# Altium schematic symbol library Transistor_BJT.SchLib: 390 symbols (part 3 of 3)
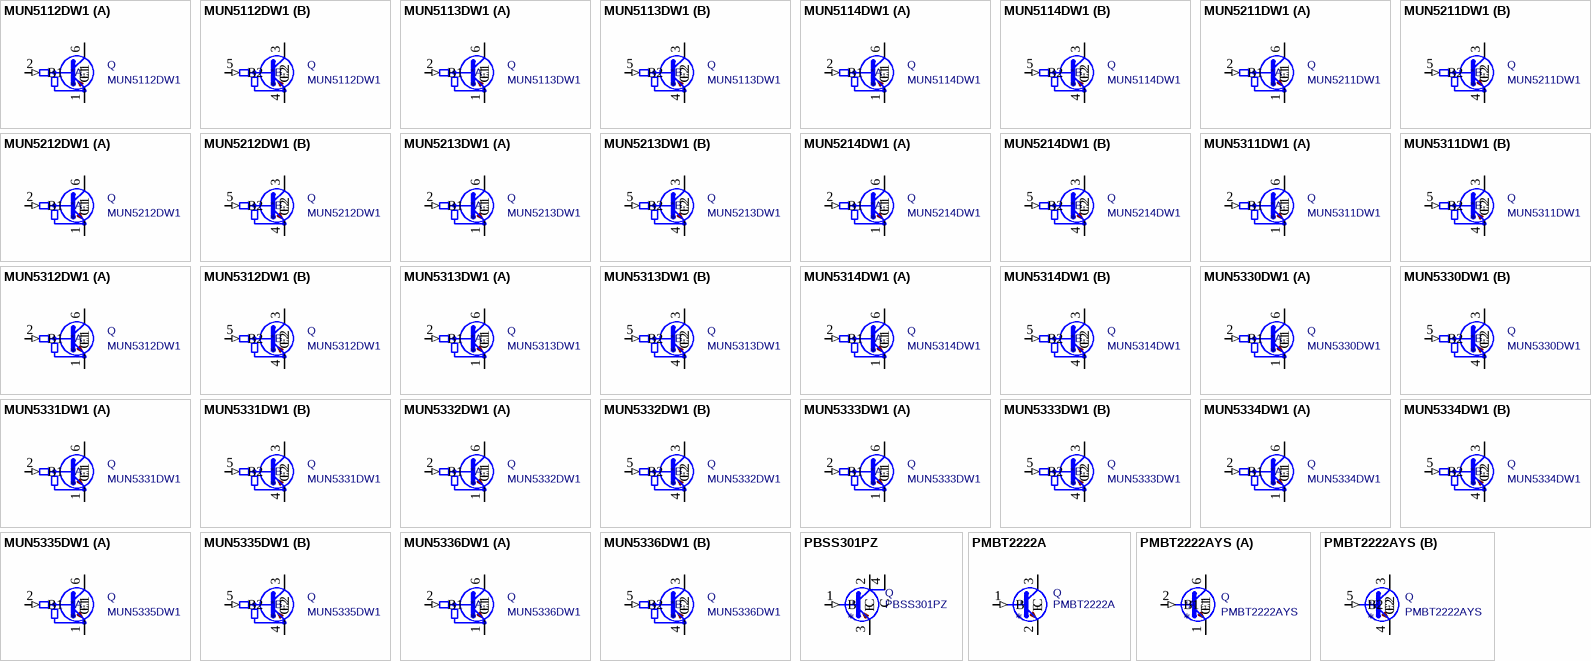
[diagram p13: symbols MUN5112DW1 to PMBT2222AYS]

## MUN5214DW1
designator *  value MUN5214DW1  Reference: Q
Dual NPN Bias Resistor Transistors, Ic 100mA, Vce 50V, Vin(fwd) 40V, R1 = 10kohms, R2 = 47kohms, SOT-363; ki_keywords: BRT Digital Transistor; ki_fp_filters: SOT*363*; Footprint: Package_TO_SOT_SMD:SOT-363_SC-70-6; Datasheet: https://www.onsemi.com/download/data-sheet/pdf/dtc114yd-d.pdf; Description_: Dual NPN Bias Resistor Transistors, Ic 100mA, Vce 50V, Vin(fwd) 40V, R1 = 10kohms, R2 = 47kohms, SOT-363
part A pins: 1 E1, 2 B1 (in), 6 C1
part B pins: 3 C2, 4 E2, 5 B2 (in)

## MUN5311DW1
designator *  value MUN5311DW1  Reference: Q
Complementary Bias Resistor Transistors, Ic 100mA, Vce 50V, Vin(fwd) 40V, R1 = 10kohms, R2 = 10kohms, SOT-363; ki_keywords: BRT Digital Transistor NPN PNP; ki_fp_filters: SOT*363*; Footprint: Package_TO_SOT_SMD:SOT-363_SC-70-6; Datasheet: https://www.onsemi.com/download/data-sheet/pdf/dtc114ep-d.pdf; Description_: Complementary Bias Resistor Transistors, Ic 100mA, Vce 50V, Vin(fwd) 40V, R1 = 10kohms, R2 = 10kohms, SOT-363
part A pins: 1 E1, 2 B1 (in), 6 C1
part B pins: 3 C2, 4 E2, 5 B2 (in)

## MUN5312DW1
designator *  value MUN5312DW1  Reference: Q
Complementary Bias Resistor Transistors, Ic 100mA, Vce 50V, Vin(fwd) 40V, R1 = 22kohms, R2 = 22kohms, SOT-363; ki_keywords: BRT Digital Transistor NPN PNP; ki_fp_filters: SOT*363*; Footprint: Package_TO_SOT_SMD:SOT-363_SC-70-6; Datasheet: https://www.onsemi.com/download/data-sheet/pdf/dtc124ep-d.pdf; Description_: Complementary Bias Resistor Transistors, Ic 100mA, Vce 50V, Vin(fwd) 40V, R1 = 22kohms, R2 = 22kohms, SOT-363
part A pins: 1 E1, 2 B1 (in), 6 C1
part B pins: 3 C2, 4 E2, 5 B2 (in)

## MUN5313DW1
designator *  value MUN5313DW1  Reference: Q
Complementary Bias Resistor Transistors, Ic 100mA, Vce 50V, Vin(fwd) 40V, R1 = 47kohms, R2 = 47kohms, SOT-363; ki_keywords: BRT Digital Transistor NPN PNP; ki_fp_filters: SOT*363*; Footprint: Package_TO_SOT_SMD:SOT-363_SC-70-6; Datasheet: https://www.onsemi.com/download/data-sheet/pdf/dtc144ep-d.pdf; Description_: Complementary Bias Resistor Transistors, Ic 100mA, Vce 50V, Vin(fwd) 40V, R1 = 47kohms, R2 = 47kohms, SOT-363
part A pins: 1 E1, 2 B1 (in), 6 C1
part B pins: 3 C2, 4 E2, 5 B2 (in)

## MUN5314DW1
designator *  value MUN5314DW1  Reference: Q
Complementary Bias Resistor Transistors, Ic 100mA, Vce 50V, Vin(fwd) 40V, R1 = 10kohms, R2 = 47kohms, SOT-363; ki_keywords: BRT Digital Transistor NPN PNP; ki_fp_filters: SOT*363*; Footprint: Package_TO_SOT_SMD:SOT-363_SC-70-6; Datasheet: https://www.onsemi.com/download/data-sheet/pdf/dtc114yp-d.pdf; Description_: Complementary Bias Resistor Transistors, Ic 100mA, Vce 50V, Vin(fwd) 40V, R1 = 10kohms, R2 = 47kohms, SOT-363
part A pins: 1 E1, 2 B1 (in), 6 C1
part B pins: 3 C2, 4 E2, 5 B2 (in)

## MUN5330DW1
designator *  value MUN5330DW1  Reference: Q
Complementary Bias Resistor Transistors, Ic 100mA, Vce 50V, Vin(fwd) 10V, R1 = 1kohms, R2 = 1kohms, SOT-363; ki_keywords: BRT Digital Transistor NPN PNP; ki_fp_filters: SOT*363*; Footprint: Package_TO_SOT_SMD:SOT-363_SC-70-6; Datasheet: https://www.onsemi.com/download/data-sheet/pdf/dtc113ep-d.pdf; Description_: Complementary Bias Resistor Transistors, Ic 100mA, Vce 50V, Vin(fwd) 10V, R1 = 1kohms, R2 = 1kohms, SOT-363
part A pins: 1 E1, 2 B1 (in), 6 C1
part B pins: 3 C2, 4 E2, 5 B2 (in)

## MUN5331DW1
designator *  value MUN5331DW1  Reference: Q
Complementary Bias Resistor Transistors, Ic 100mA, Vce 50V, Vin(fwd) 12V, R1 = 2.2kohms, R2 = 2.2kohms, SOT-363; ki_keywords: BRT Digital Transistor NPN PNP; ki_fp_filters: SOT*363*; Footprint: Package_TO_SOT_SMD:SOT-363_SC-70-6; Datasheet: https://www.onsemi.com/download/data-sheet/pdf/dtc123ep-d.pdf; Description_: Complementary Bias Resistor Transistors, Ic 100mA, Vce 50V, Vin(fwd) 12V, R1 = 2.2kohms, R2 = 2.2kohms, SOT-363
part A pins: 1 E1, 2 B1 (in), 6 C1
part B pins: 3 C2, 4 E2, 5 B2 (in)

## MUN5332DW1
designator *  value MUN5332DW1  Reference: Q
Complementary Bias Resistor Transistors, Ic 100mA, Vce 50V, Vin(fwd) 30V, R1 = 4.7kohms, R2 = 4.7kohms, SOT-363; ki_keywords: BRT Digital Transistor NPN PNP; ki_fp_filters: SOT*363*; Footprint: Package_TO_SOT_SMD:SOT-363_SC-70-6; Datasheet: https://www.onsemi.com/download/data-sheet/pdf/dtc143ep-d.pdf; Description_: Complementary Bias Resistor Transistors, Ic 100mA, Vce 50V, Vin(fwd) 30V, R1 = 4.7kohms, R2 = 4.7kohms, SOT-363
part A pins: 1 E1, 2 B1 (in), 6 C1
part B pins: 3 C2, 4 E2, 5 B2 (in)

## MUN5333DW1
designator *  value MUN5333DW1  Reference: Q
Complementary Bias Resistor Transistors, Ic 100mA, Vce 50V, Vin(fwd) 30V, R1 = 4.7kohms, R2 = 47kohms, SOT-363; ki_keywords: BRT Digital Transistor NPN PNP; ki_fp_filters: SOT*363*; Footprint: Package_TO_SOT_SMD:SOT-363_SC-70-6; Datasheet: https://www.onsemi.com/download/data-sheet/pdf/dtc143zp-d.pdf; Description_: Complementary Bias Resistor Transistors, Ic 100mA, Vce 50V, Vin(fwd) 30V, R1 = 4.7kohms, R2 = 47kohms, SOT-363
part A pins: 1 E1, 2 B1 (in), 6 C1
part B pins: 3 C2, 4 E2, 5 B2 (in)

## MUN5334DW1
designator *  value MUN5334DW1  Reference: Q
Complementary Bias Resistor Transistors, Ic 100mA, Vce 50V, Vin(fwd) 40V, R1 = 22kohms, R2 = 47kohms, SOT-363; ki_keywords: BRT Digital Transistor NPN PNP; ki_fp_filters: SOT*363*; Footprint: Package_TO_SOT_SMD:SOT-363_SC-70-6; Datasheet: https://www.onsemi.com/download/data-sheet/pdf/dtc124xp-d.pdf; Description_: Complementary Bias Resistor Transistors, Ic 100mA, Vce 50V, Vin(fwd) 40V, R1 = 22kohms, R2 = 47kohms, SOT-363
part A pins: 1 E1, 2 B1 (in), 6 C1
part B pins: 3 C2, 4 E2, 5 B2 (in)

## MUN5335DW1
designator *  value MUN5335DW1  Reference: Q
Complementary Bias Resistor Transistors, Ic 100mA, Vce 50V, Vin(fwd) 12V, R1 = 2.2kohms, R2 = 47kohms, SOT-363; ki_keywords: BRT Digital Transistor NPN PNP; ki_fp_filters: SOT*363*; Footprint: Package_TO_SOT_SMD:SOT-363_SC-70-6; Datasheet: https://www.onsemi.com/download/data-sheet/pdf/dtc123jp-d.pdf; Description_: Complementary Bias Resistor Transistors, Ic 100mA, Vce 50V, Vin(fwd) 12V, R1 = 2.2kohms, R2 = 47kohms, SOT-363
part A pins: 1 E1, 2 B1 (in), 6 C1
part B pins: 3 C2, 4 E2, 5 B2 (in)

## MUN5336DW1
designator *  value MUN5336DW1  Reference: Q
Complementary Bias Resistor Transistors, Ic 100mA, Vce 50V, Vin(fwd) 40V, R1 = 100kohms, R2 = 100kohms, SOT-363; ki_keywords: BRT Digital Transistor NPN PNP; ki_fp_filters: SOT*363*; Footprint: Package_TO_SOT_SMD:SOT-363_SC-70-6; Datasheet: https://www.onsemi.com/download/data-sheet/pdf/dtc115ep-d.pdf; Description_: Complementary Bias Resistor Transistors, Ic 100mA, Vce 50V, Vin(fwd) 40V, R1 = 100kohms, R2 = 100kohms, SOT-363
part A pins: 1 E1, 2 B1 (in), 6 C1
part B pins: 3 C2, 4 E2, 5 B2 (in)

## PBSS301PZ
designator *  value PBSS301PZ  Reference: Q
-5.7A Ic, -12V Vce, Small Signal PNP Transistor, SOT-223; ki_fp_filters: SOT?223*; Footprint: Package_TO_SOT_SMD:SOT-223-3_TabPin2; Datasheet: https://assets.nexperia.com/documents/data-sheet/PBSS301PZ.pdf; Description_: -5.7A Ic, -12V Vce, Small Signal PNP Transistor, SOT-223; ki_keywords: PNP Transistor
pins: 1 B (in), 2 C, 3 E, 4 C

## PMBT2222A
designator *  value PMBT2222A  Reference: Q
600mA Ic, 40V Vce, NPN Transistor, SOT-23; ki_fp_filters: SOT?23*; Footprint: Package_TO_SOT_SMD:SOT-23; Datasheet: https://assets.nexperia.com/documents/data-sheet/PMBT2222A.pdf; Description_: 600mA Ic, 40V Vce, NPN Transistor, SOT-23; ki_keywords: NPN Transistor
pins: 1 B (in), 2 E, 3 C

## PMBT2222AYS
designator *  value PMBT2222AYS  Reference: Q
600mA IC, 40V Vce, Dual NPN/NPN Transistors, SOT-363; ki_fp_filters: SOT?363*; Footprint: Package_TO_SOT_SMD:SOT-363_SC-70-6; Datasheet: https://assets.nexperia.com/documents/data-sheet/PMBT2222AYS.pdf; Description_: 600mA IC, 40V Vce, Dual NPN/NPN Transistors, SOT-363; ki_keywords: NPN/NPN Transistor
part A pins: 1 E1, 2 B1 (in), 6 C1
part B pins: 3 C2, 4 E2, 5 B2 (in)

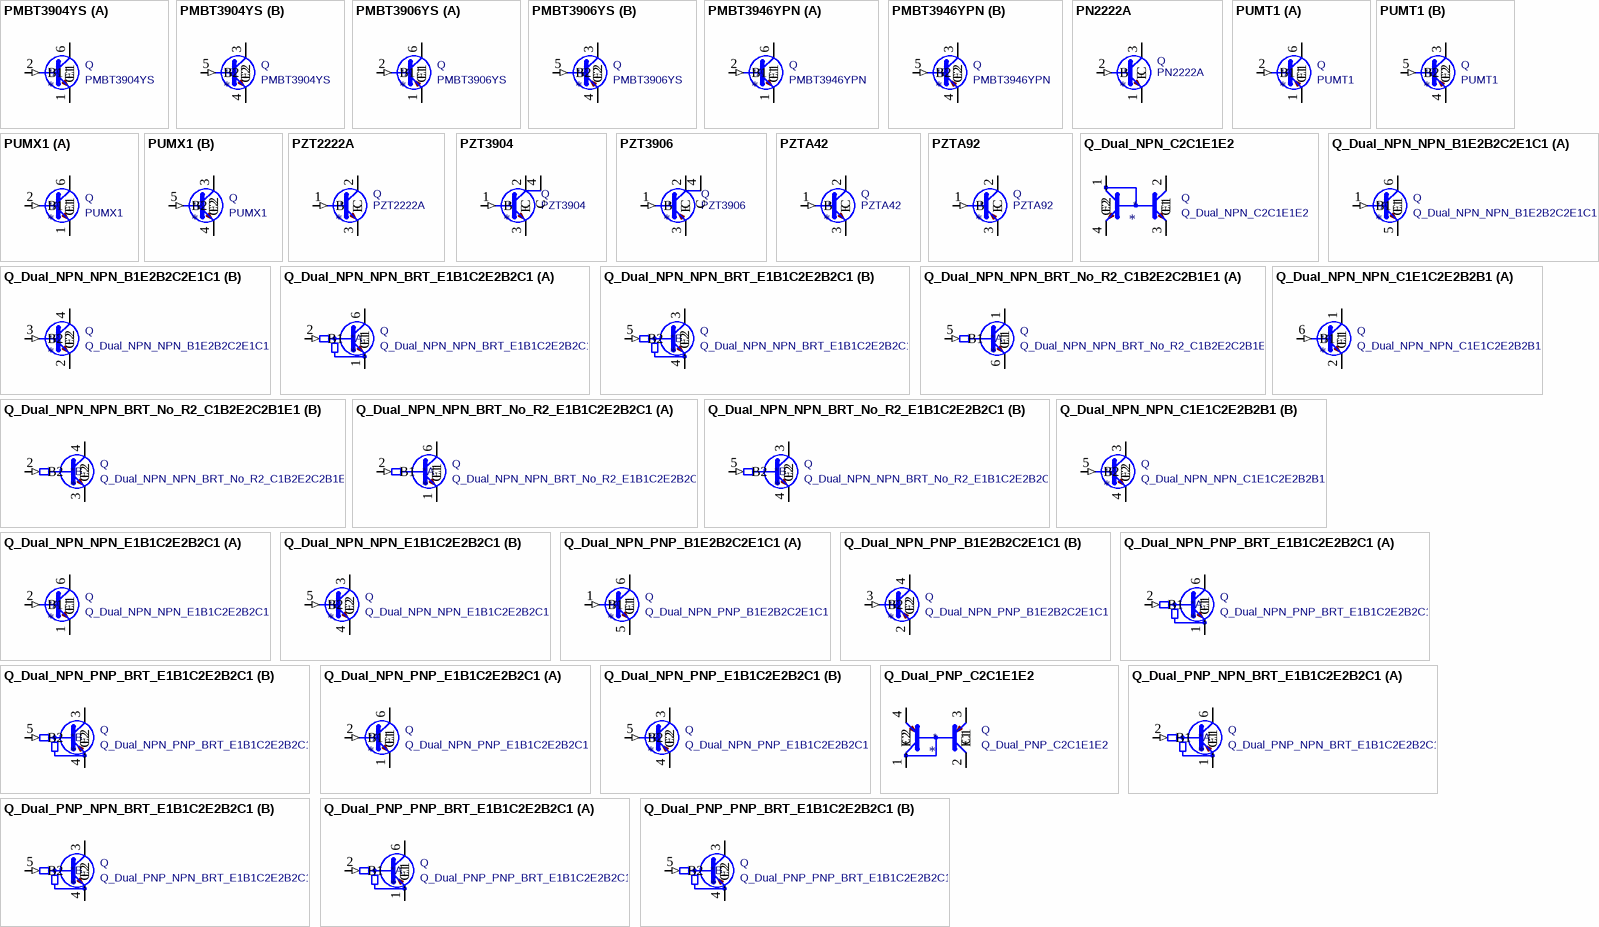
[diagram p9: symbols PMBT3904YS to Q_Dual_PNP_PNP_BRT_E1B1C2E2B2C1]

## PMBT3904YS
designator *  value PMBT3904YS  Reference: Q
200mA IC, 40V Vce, Dual NPN/NPN Transistors, SOT-363; ki_fp_filters: SOT?363*; Footprint: Package_TO_SOT_SMD:SOT-363_SC-70-6; Datasheet: https://assets.nexperia.com/documents/data-sheet/PMBT3904YS.pdf; Description_: 200mA IC, 40V Vce, Dual NPN/NPN Transistors, SOT-363; ki_keywords: NPN/NPN Transistor
part A pins: 1 E1, 2 B1 (in), 6 C1
part B pins: 3 C2, 4 E2, 5 B2 (in)

## PMBT3906YS
designator *  value PMBT3906YS  Reference: Q
200mA IC, 40V Vce, Dual PNP/PNP Transistors, SOT-363; ki_fp_filters: SOT?363*; Footprint: Package_TO_SOT_SMD:SOT-363_SC-70-6; Datasheet: https://assets.nexperia.com/documents/data-sheet/PMBT3906YS.pdf; Description_: 200mA IC, 40V Vce, Dual PNP/PNP Transistors, SOT-363; ki_keywords: PNP/PNP Transistor
part A pins: 1 E1, 2 B1 (in), 6 C1
part B pins: 3 C2, 4 E2, 5 B2 (in)

## PMBT3946YPN
designator *  value PMBT3946YPN  Reference: Q
200mA IC, 40V Vce, Dual NPN/PNP Transistors, SOT-363; ki_fp_filters: SOT?363*; Footprint: Package_TO_SOT_SMD:SOT-363_SC-70-6; Datasheet: https://assets.nexperia.com/documents/data-sheet/PMBT3946YPN.pdf; Description_: 200mA IC, 40V Vce, Dual NPN/PNP Transistors, SOT-363; ki_keywords: NPN/PNP Transistor
part A pins: 1 E1, 2 B1 (in), 6 C1
part B pins: 3 C2, 4 E2, 5 B2 (in)

## PN2222A
designator *  value PN2222A  Reference: Q
1A Ic, 40V Vce, NPN Transistor, General Purpose Transistor, TO-92; ki_fp_filters: TO?92*; Footprint: Package_TO_SOT_THT:TO-92_Inline; Datasheet: https://www.onsemi.com/pub/Collateral/PN2222-D.PDF; Description_: 1A Ic, 40V Vce, NPN Transistor, General Purpose Transistor, TO-92; ki_keywords: NPN Transistor
pins: 1 E, 2 B (in), 3 C

## PUMT1
designator *  value PUMT1  Reference: Q
100mA IC, 40V Vce, Dual PNP/PNP Transistors, SOT-363; ki_fp_filters: SOT?363*; Footprint: Package_TO_SOT_SMD:SOT-363_SC-70-6; Datasheet: https://assets.nexperia.com/documents/data-sheet/PUMT1.pdf; Description_: 100mA IC, 40V Vce, Dual PNP/PNP Transistors, SOT-363; ki_keywords: PNP/PNP Transistor
part A pins: 1 E1, 2 B1 (in), 6 C1
part B pins: 3 C2, 4 E2, 5 B2 (in)

## PUMX1
designator *  value PUMX1  Reference: Q
100mA IC, 40V Vce, Dual NPN/NPN Transistors, SOT-363; ki_fp_filters: SOT?363*; Footprint: Package_TO_SOT_SMD:SOT-363_SC-70-6; Datasheet: https://assets.nexperia.com/documents/data-sheet/PUMX1.pdf; Description_: 100mA IC, 40V Vce, Dual NPN/NPN Transistors, SOT-363; ki_keywords: NPN/NPN Transistor
part A pins: 1 E1, 2 B1 (in), 6 C1
part B pins: 3 C2, 4 E2, 5 B2 (in)

## PZT2222A
designator *  value PZT2222A  Reference: Q
1A Ic, 40V Vce, NPN Transistor, General Purpose Transistor, SOT-223; ki_keywords: NPN General Puprose Transistor SMD; ki_fp_filters: SOT?223*; Footprint: Package_TO_SOT_SMD:SOT-223-3_TabPin2; Datasheet: https://www.onsemi.com/pub/Collateral/PN2222-D.PDF; Description_: 1A Ic, 40V Vce, NPN Transistor, General Purpose Transistor, SOT-223
pins: 1 B (in), 2 C, 3 E

## PZT3904
designator *  value PZT3904  Reference: Q
0.2A Ic, 40V Vce, Small Signal NPN Transistor, SOT-223; ki_fp_filters: SOT?223*; Footprint: Package_TO_SOT_SMD:SOT-223-3_TabPin2; Datasheet: https://www.onsemi.com/pdf/datasheet/pzt3904-d.pdf; Description_: 0.2A Ic, 40V Vce, Small Signal NPN Transistor, SOT-223; ki_keywords: NPN Transistor
pins: 1 B (in), 2 C, 3 E, 4 C

## PZT3906
designator *  value PZT3906  Reference: Q
-0.2A Ic, -40V Vce, Small Signal PNP Transistor, SOT-223; ki_fp_filters: SOT?223*; Footprint: Package_TO_SOT_SMD:SOT-223-3_TabPin2; Datasheet: https://www.onsemi.com/pdf/datasheet/pzt3906-d.pdf; Description_: -0.2A Ic, -40V Vce, Small Signal PNP Transistor, SOT-223; ki_keywords: PNP Transistor
pins: 1 B (in), 2 C, 3 E, 4 C

## PZTA42
designator *  value PZTA42  Reference: Q
0.5A Ic, 300V Vce, NPN High Voltage Transistor, SOT-223; ki_keywords: NPN High Voltage Transistor SMD; ki_fp_filters: SOT?223*; Footprint: Package_TO_SOT_SMD:SOT-223-3_TabPin2; Datasheet: https://www.onsemi.com/pub/Collateral/PZTA42T1-D.PDF; Description_: 0.5A Ic, 300V Vce, NPN High Voltage Transistor, SOT-223
pins: 1 B (in), 2 C, 3 E

## PZTA92
designator *  value PZTA92  Reference: Q
0.5A Ic, 300V Vce, PNP High Voltage Transistor, SOT-223; ki_fp_filters: SOT?223*; Footprint: Package_TO_SOT_SMD:SOT-223-3_TabPin2; Datasheet: https://www.onsemi.com/pub/Collateral/PZTA92T1-D.PDF; Description_: 0.5A Ic, 300V Vce, PNP High Voltage Transistor, SOT-223; ki_keywords: PNP High Voltage Transistor
pins: 1 B (in), 2 C, 3 E

## Q_Dual_NPN_C2C1E1E2
designator *  value Q_Dual_NPN_C2C1E1E2  Reference: Q
Double NPN transistors, current mirror configuration; ki_keywords: BJT; Datasheet: ~; Description_: Double NPN transistors, current mirror configuration
pins: 1 C2, 2 C1, 3 E1, 4 E2

## Q_Dual_NPN_NPN_B1E2B2C2E1C1
designator *  value Q_Dual_NPN_NPN_B1E2B2C2E1C1  Reference: Q
Dual NPN transistor, 6 pin package; ki_keywords: BJT; Datasheet: ~; Description_: Dual NPN transistor, 6 pin package
part A pins: 1 B1 (in), 5 E1, 6 C1
part B pins: 2 E2, 3 B2 (in), 4 C2

## Q_Dual_NPN_NPN_BRT_E1B1C2E2B2C1
designator *  value Q_Dual_NPN_NPN_BRT_E1B1C2E2B2C1  Reference: Q
Dual NPN bias resistor transistor, 6 pin package; ki_keywords: BJT; Datasheet: ~; Description_: Dual NPN bias resistor transistor, 6 pin package
part A pins: 1 E1, 2 B1 (in), 6 C1
part B pins: 3 C2, 4 E2, 5 B2 (in)

## Q_Dual_NPN_NPN_BRT_No_R2_C1B2E2C2B1E1
designator *  value Q_Dual_NPN_NPN_BRT_No_R2_C1B2E2C2B1E1  Reference: Q
Dual NPN bias resistor transistor without a base-emitter resistor, 6 pin package; ki_keywords: BJT; Datasheet: ~; Description_: Dual NPN bias resistor transistor without a base-emitter resistor, 6 pin package
part A pins: 1 C1, 5 B1 (in), 6 E1
part B pins: 2 B2 (in), 3 E2, 4 C2

## Q_Dual_NPN_NPN_BRT_No_R2_E1B1C2E2B2C1
designator *  value Q_Dual_NPN_NPN_BRT_No_R2_E1B1C2E2B2C1  Reference: Q
Dual NPN bias resistor transistor without a base-emitter resistor, 6 pin package; ki_keywords: BJT; Datasheet: ~; Description_: Dual NPN bias resistor transistor without a base-emitter resistor, 6 pin package
part A pins: 1 E1, 2 B1 (in), 6 C1
part B pins: 3 C2, 4 E2, 5 B2 (in)

## Q_Dual_NPN_NPN_C1E1C2E2B2B1
designator *  value Q_Dual_NPN_NPN_C1E1C2E2B2B1  Reference: Q
Dual NPN transistor, 6 pin package; ki_keywords: BJT; Datasheet: ~; Description_: Dual NPN transistor, 6 pin package
part A pins: 1 C1, 2 E1, 6 B1 (in)
part B pins: 3 C2, 4 E2, 5 B2 (in)

## Q_Dual_NPN_NPN_E1B1C2E2B2C1
designator *  value Q_Dual_NPN_NPN_E1B1C2E2B2C1  Reference: Q
Dual NPN transistor, 6 pin package; ki_keywords: BJT; Datasheet: ~; Description_: Dual NPN transistor, 6 pin package
part A pins: 1 E1, 2 B1 (in), 6 C1
part B pins: 3 C2, 4 E2, 5 B2 (in)

## Q_Dual_NPN_PNP_B1E2B2C2E1C1
designator *  value Q_Dual_NPN_PNP_B1E2B2C2E1C1  Reference: Q
Dual NPN/PNP transistor, 6 pin package; ki_keywords: BJT; Datasheet: ~; Description_: Dual NPN/PNP transistor, 6 pin package
part A pins: 1 B1 (in), 5 E1, 6 C1
part B pins: 2 E2, 3 B2 (in), 4 C2

## Q_Dual_NPN_PNP_BRT_E1B1C2E2B2C1
designator *  value Q_Dual_NPN_PNP_BRT_E1B1C2E2B2C1  Reference: Q
Dual NPN/PNP bias resistor transistor, 6 pin package; ki_keywords: BJT; Datasheet: ~; Description_: Dual NPN/PNP bias resistor transistor, 6 pin package
part A pins: 1 E1, 2 B1 (in), 6 C1
part B pins: 3 C2, 4 E2, 5 B2 (in)

## Q_Dual_NPN_PNP_E1B1C2E2B2C1
designator *  value Q_Dual_NPN_PNP_E1B1C2E2B2C1  Reference: Q
Dual NPN/PNP transistor, 6 pin package; ki_keywords: BJT; Datasheet: ~; Description_: Dual NPN/PNP transistor, 6 pin package
part A pins: 1 E1, 2 B1 (in), 6 C1
part B pins: 3 C2, 4 E2, 5 B2 (in)

## Q_Dual_PNP_C2C1E1E2
designator *  value Q_Dual_PNP_C2C1E1E2  Reference: Q
Double PNP transistors, current mirror configuration; ki_keywords: BJT; Datasheet: ~; Description_: Double PNP transistors, current mirror configuration
pins: 1 C2, 2 C1, 3 E1, 4 E2

## Q_Dual_PNP_NPN_BRT_E1B1C2E2B2C1
designator *  value Q_Dual_PNP_NPN_BRT_E1B1C2E2B2C1  Reference: Q
Dual PNP/NPN bias resistor transistor, 6 pin package; ki_keywords: BJT; Datasheet: ~; Description_: Dual PNP/NPN bias resistor transistor, 6 pin package
part A pins: 1 E1, 2 B1 (in), 6 C1
part B pins: 3 C2, 4 E2, 5 B2 (in)

## Q_Dual_PNP_PNP_BRT_E1B1C2E2B2C1
designator *  value Q_Dual_PNP_PNP_BRT_E1B1C2E2B2C1  Reference: Q
Dual PNP bias resistor transistor, 6 pin package; ki_keywords: BJT; Datasheet: ~; Description_: Dual PNP bias resistor transistor, 6 pin package
part A pins: 1 E1, 2 B1 (in), 6 C1
part B pins: 3 C2, 4 E2, 5 B2 (in)

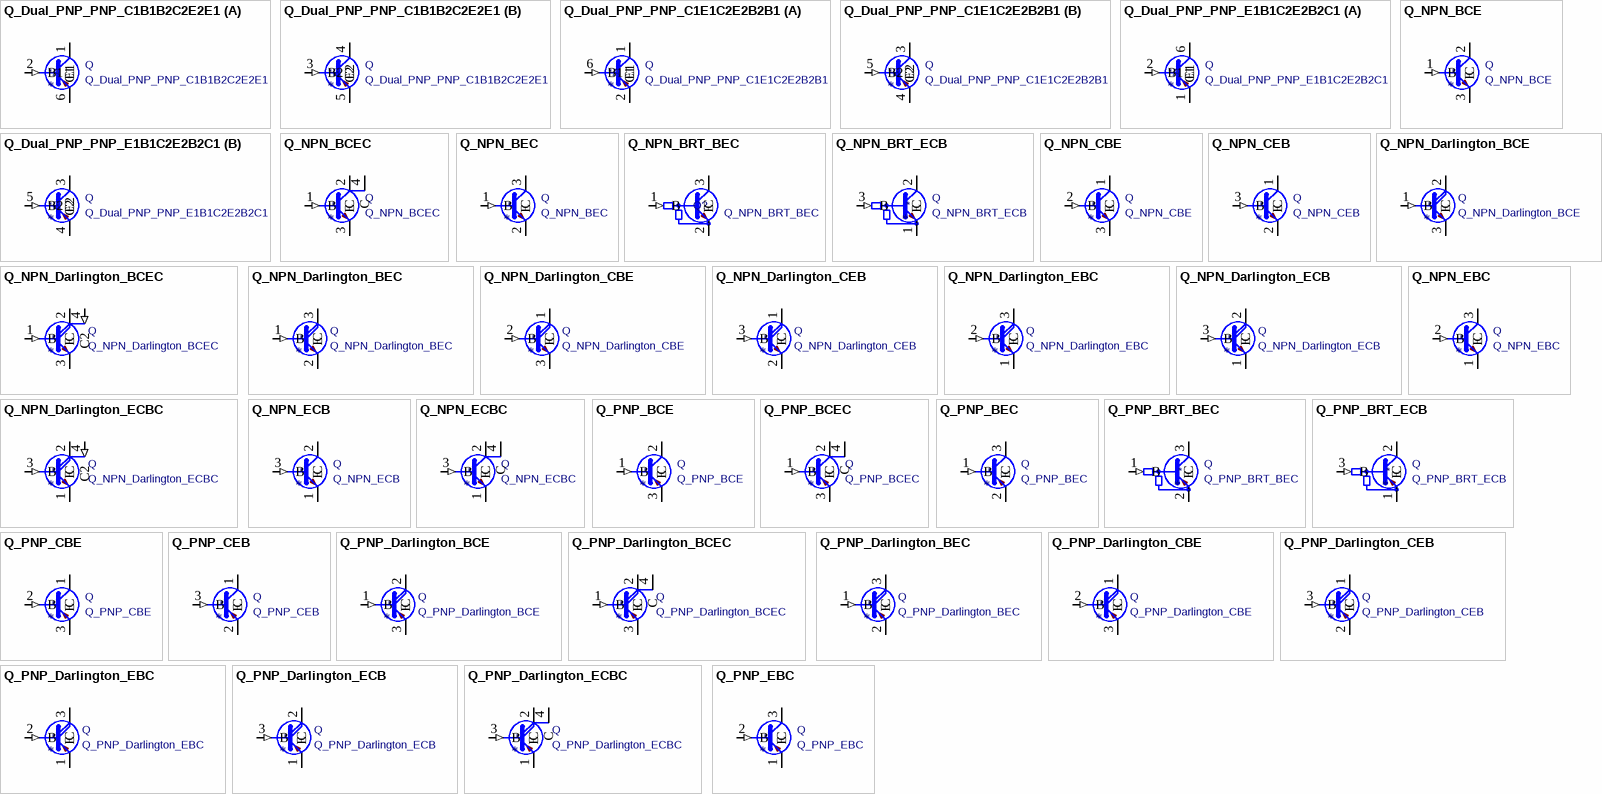
[diagram p10: symbols Q_Dual_PNP_PNP_C1B1B2C2E2E1 to Q_PNP_EBC]

## Q_Dual_PNP_PNP_C1B1B2C2E2E1
designator *  value Q_Dual_PNP_PNP_C1B1B2C2E2E1  Reference: Q
Dual PNP transistor, 6 pin package; ki_keywords: BJT; Datasheet: ~; Description_: Dual PNP transistor, 6 pin package
part A pins: 1 C1, 2 B1 (in), 6 E1
part B pins: 3 B2 (in), 4 C2, 5 E2

## Q_Dual_PNP_PNP_C1E1C2E2B2B1
designator *  value Q_Dual_PNP_PNP_C1E1C2E2B2B1  Reference: Q
Dual PNP transistor, 6 pin package; ki_keywords: BJT; Datasheet: ~; Description_: Dual PNP transistor, 6 pin package
part A pins: 1 C1, 2 E1, 6 B1 (in)
part B pins: 3 C2, 4 E2, 5 B2 (in)

## Q_Dual_PNP_PNP_E1B1C2E2B2C1
designator *  value Q_Dual_PNP_PNP_E1B1C2E2B2C1  Reference: Q
Dual PNP transistor, 6 pin package; ki_keywords: BJT; Datasheet: ~; Description_: Dual PNP transistor, 6 pin package
part A pins: 1 E1, 2 B1 (in), 6 C1
part B pins: 3 C2, 4 E2, 5 B2 (in)

## Q_NPN_BCE
designator *  value Q_NPN_BCE  Reference: Q
NPN transistor, base/collector/emitter; ki_keywords: BJT; Datasheet: ~; Description_: NPN transistor, base/collector/emitter
pins: 1 B (in), 2 C, 3 E

## Q_NPN_BCEC
designator *  value Q_NPN_BCEC  Reference: Q
NPN transistor, base/collector/emitter, collector connected to mounting plane; ki_keywords: BJT; Datasheet: ~; Description_: NPN transistor, base/collector/emitter, collector connected to mounting plane
pins: 1 B (in), 2 C, 3 E, 4 C

## Q_NPN_BEC
designator *  value Q_NPN_BEC  Reference: Q
NPN transistor, base/emitter/collector; ki_keywords: BJT; Datasheet: ~; Description_: NPN transistor, base/emitter/collector
pins: 1 B (in), 2 E, 3 C

## Q_NPN_BRT_BEC
designator Q?  value Q_NPN_BRT_BEC  (hidden comment: *)
NPN bias resistor transistor, base/emitter/collector; ki_keywords: BJT; Reference: Q; Datasheet: ~; Description_: NPN bias resistor transistor, base/emitter/collector
footprint SOT-23-3
pins: 1 B (in), 2 E, 3 C

## Q_NPN_BRT_ECB
designator *  value Q_NPN_BRT_ECB  Reference: Q
NPN transistor, emitter/collector/base; ki_keywords: BJT; Datasheet: ~; Description_: NPN transistor, emitter/collector/base
pins: 1 E, 2 C, 3 B (in)

## Q_NPN_CBE
designator *  value Q_NPN_CBE  Reference: Q
NPN transistor, collector/base/emitter; ki_keywords: BJT; Datasheet: ~; Description_: NPN transistor, collector/base/emitter
pins: 1 C, 2 B (in), 3 E

## Q_NPN_CEB
designator *  value Q_NPN_CEB  Reference: Q
NPN transistor, collector/emitter/base; ki_keywords: BJT; Datasheet: ~; Description_: NPN transistor, collector/emitter/base
pins: 1 C, 2 E, 3 B (in)

## Q_NPN_Darlington_BCE
designator *  value Q_NPN_Darlington_BCE  Reference: Q
NPN Darlington transistor, base/collector/emitter; ki_keywords: BJT; Datasheet: ~; Description_: NPN Darlington transistor, base/collector/emitter
pins: 1 B (in), 2 C, 3 E

## Q_NPN_Darlington_BCEC
designator *  value Q_NPN_Darlington_BCEC  Reference: Q
NPN Darlington transistor, base/collector/emitter, collector connected to mounting plane; ki_keywords: BJT; Datasheet: ~; Description_: NPN Darlington transistor, base/collector/emitter, collector connected to mounting plane
pins: 1 B (in), 2 C, 3 E, 4 C2 (in)

## Q_NPN_Darlington_BEC
designator *  value Q_NPN_Darlington_BEC  Reference: Q
NPN Darlington transistor, base/emitter/collector; ki_keywords: BJT; Datasheet: ~; Description_: NPN Darlington transistor, base/emitter/collector
pins: 1 B (in), 2 E, 3 C

## Q_NPN_Darlington_CBE
designator *  value Q_NPN_Darlington_CBE  Reference: Q
NPN Darlington transistor, collector/base/emitter; ki_keywords: BJT; Datasheet: ~; Description_: NPN Darlington transistor, collector/base/emitter
pins: 1 C, 2 B (in), 3 E

## Q_NPN_Darlington_CEB
designator *  value Q_NPN_Darlington_CEB  Reference: Q
NPN Darlington transistor, collector/emitter/base; ki_keywords: BJT; Datasheet: ~; Description_: NPN Darlington transistor, collector/emitter/base
pins: 1 C, 2 E, 3 B (in)

## Q_NPN_Darlington_EBC
designator *  value Q_NPN_Darlington_EBC  Reference: Q
NPN Darlington transistor, emitter/base/collector; ki_keywords: BJT; Datasheet: ~; Description_: NPN Darlington transistor, emitter/base/collector
pins: 1 E, 2 B (in), 3 C

## Q_NPN_Darlington_ECB
designator *  value Q_NPN_Darlington_ECB  Reference: Q
NPN Darlington transistor, emitter/collector/base; ki_keywords: BJT; Datasheet: ~; Description_: NPN Darlington transistor, emitter/collector/base
pins: 1 E, 2 C, 3 B (in)

## Q_NPN_Darlington_ECBC
designator *  value Q_NPN_Darlington_ECBC  Reference: Q
NPN Darlington transistor, emitter/collector/base, collector connected to mounting plane; ki_keywords: BJT; Datasheet: ~; Description_: NPN Darlington transistor, emitter/collector/base, collector connected to mounting plane
pins: 1 E, 2 C, 3 B (in), 4 C2 (in)

## Q_NPN_EBC
designator *  value Q_NPN_EBC  Reference: Q
NPN transistor, emitter/base/collector; ki_keywords: BJT; Datasheet: ~; Description_: NPN transistor, emitter/base/collector
pins: 1 E, 2 B (in), 3 C

## Q_NPN_ECB
designator *  value Q_NPN_ECB  Reference: Q
NPN transistor, emitter/collector/base; ki_keywords: BJT; Datasheet: ~; Description_: NPN transistor, emitter/collector/base
pins: 1 E, 2 C, 3 B (in)

## Q_NPN_ECBC
designator *  value Q_NPN_ECBC  Reference: Q
NPN transistor, emitter/collector/base, collector connected to mounting plane; ki_keywords: BJT; Datasheet: ~; Description_: NPN transistor, emitter/collector/base, collector connected to mounting plane
pins: 1 E, 2 C, 3 B (in), 4 C

## Q_PNP_BCE
designator *  value Q_PNP_BCE  Reference: Q
PNP transistor, base/collector/emitter; ki_keywords: BJT; Datasheet: ~; Description_: PNP transistor, base/collector/emitter
pins: 1 B (in), 2 C, 3 E

## Q_PNP_BCEC
designator *  value Q_PNP_BCEC  Reference: Q
PNP transistor, base/collector/emitter, collector connected to mounting plane; ki_keywords: BJT; Datasheet: ~; Description_: PNP transistor, base/collector/emitter, collector connected to mounting plane
pins: 1 B (in), 2 C, 3 E, 4 C

## Q_PNP_BEC
designator *  value Q_PNP_BEC  Reference: Q
PNP transistor, base/emitter/collector; ki_keywords: BJT; Datasheet: ~; Description_: PNP transistor, base/emitter/collector
pins: 1 B (in), 2 E, 3 C

## Q_PNP_BRT_BEC
designator *  value Q_PNP_BRT_BEC  Reference: Q
PNP bias resistor transistor, base/emitter/collector; ki_keywords: BJT; Datasheet: ~; Description_: PNP bias resistor transistor, base/emitter/collector
pins: 1 B (in), 2 E, 3 C

## Q_PNP_BRT_ECB
designator *  value Q_PNP_BRT_ECB  Reference: Q
PNP bias resistor transistor, emitter/collector/base; ki_keywords: BJT; Datasheet: ~; Description_: PNP bias resistor transistor, emitter/collector/base
pins: 1 E, 2 C, 3 B (in)

## Q_PNP_CBE
designator *  value Q_PNP_CBE  Reference: Q
PNP transistor, collector/base/emitter; ki_keywords: BJT; Datasheet: ~; Description_: PNP transistor, collector/base/emitter
pins: 1 C, 2 B (in), 3 E

## Q_PNP_CEB
designator *  value Q_PNP_CEB  Reference: Q
PNP transistor, collector/emitter/base; ki_keywords: BJT; Datasheet: ~; Description_: PNP transistor, collector/emitter/base
pins: 1 C, 2 E, 3 B (in)

## Q_PNP_Darlington_BCE
designator *  value Q_PNP_Darlington_BCE  Reference: Q
PNP Darlington transistor, base/collector/emitter; ki_keywords: BJT; Datasheet: ~; Description_: PNP Darlington transistor, base/collector/emitter
pins: 1 B (in), 2 C, 3 E

## Q_PNP_Darlington_BCEC
designator *  value Q_PNP_Darlington_BCEC  Reference: Q
PNP Darlington transistor, base/collector/emitter, collector connected to mounting plane; ki_keywords: BJT; Datasheet: ~; Description_: PNP Darlington transistor, base/collector/emitter, collector connected to mounting plane
pins: 1 B (in), 2 C, 3 E, 4 C

## Q_PNP_Darlington_BEC
designator *  value Q_PNP_Darlington_BEC  Reference: Q
PNP Darlington transistor, base/emitter/collector; ki_keywords: BJT; Datasheet: ~; Description_: PNP Darlington transistor, base/emitter/collector
pins: 1 B (in), 2 E, 3 C

## Q_PNP_Darlington_CBE
designator *  value Q_PNP_Darlington_CBE  Reference: Q
PNP Darlington transistor, collector/base/emitter; ki_keywords: BJT; Datasheet: ~; Description_: PNP Darlington transistor, collector/base/emitter
pins: 1 C, 2 B (in), 3 E

## Q_PNP_Darlington_CEB
designator *  value Q_PNP_Darlington_CEB  Reference: Q
PNP Darlington transistor, collector/emitter/base; ki_keywords: BJT; Datasheet: ~; Description_: PNP Darlington transistor, collector/emitter/base
pins: 1 C, 2 E, 3 B (in)

## Q_PNP_Darlington_EBC
designator *  value Q_PNP_Darlington_EBC  Reference: Q
PNP Darlington transistor, emitter/base/collector; ki_keywords: BJT; Datasheet: ~; Description_: PNP Darlington transistor, emitter/base/collector
pins: 1 E, 2 B (in), 3 C

## Q_PNP_Darlington_ECB
designator *  value Q_PNP_Darlington_ECB  Reference: Q
PNP Darlington transistor, emitter/collector/base; ki_keywords: BJT; Datasheet: ~; Description_: PNP Darlington transistor, emitter/collector/base
pins: 1 E, 2 C, 3 B (in)

## Q_PNP_Darlington_ECBC
designator *  value Q_PNP_Darlington_ECBC  Reference: Q
PNP Darlington transistor, emitter/collector/base, collector connected to mounting plane; ki_keywords: BJT; Datasheet: ~; Description_: PNP Darlington transistor, emitter/collector/base, collector connected to mounting plane
pins: 1 E, 2 C, 3 B (in), 4 C

## Q_PNP_EBC
designator *  value Q_PNP_EBC  Reference: Q
PNP transistor, emitter/base/collector; ki_keywords: BJT; Datasheet: ~; Description_: PNP transistor, emitter/base/collector
pins: 1 E, 2 B (in), 3 C

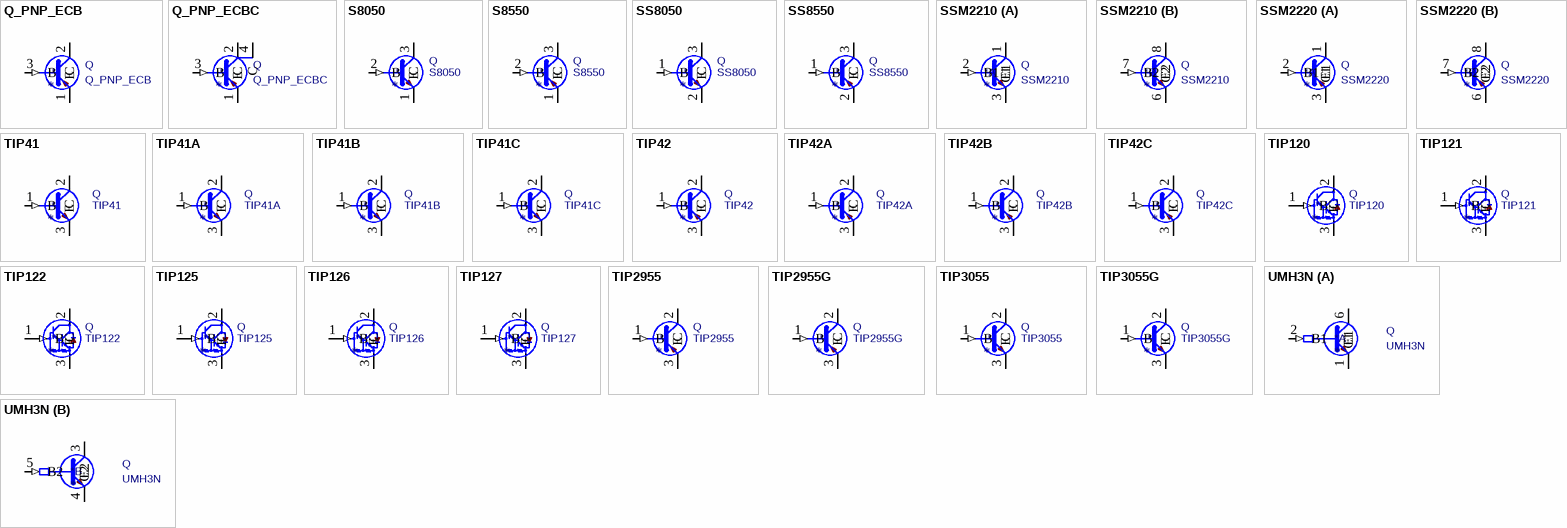
[diagram p11: symbols Q_PNP_ECB to UMH3N]

## Q_PNP_ECB
designator *  value Q_PNP_ECB  Reference: Q
PNP transistor, emitter/collector/base; ki_keywords: BJT; Datasheet: ~; Description_: PNP transistor, emitter/collector/base
pins: 1 E, 2 C, 3 B (in)

## Q_PNP_ECBC
designator *  value Q_PNP_ECBC  Reference: Q
PNP transistor, emitter/collector/base, collector connected to mounting plane; ki_keywords: BJT; Datasheet: ~; Description_: PNP transistor, emitter/collector/base, collector connected to mounting plane
pins: 1 E, 2 C, 3 B (in), 4 C

## S8050
designator *  value S8050  Reference: Q
0.7A Ic, 20V Vce, Low Voltage High Current NPN Transistor, TO-92; ki_keywords: S8050 NPN Low Voltage High Current Transistor; ki_fp_filters: TO?92*; Footprint: Package_TO_SOT_THT:TO-92_Inline; Datasheet: http://www.unisonic.com.tw/datasheet/S8050.pdf; Description_: 0.7A Ic, 20V Vce, Low Voltage High Current NPN Transistor, TO-92
pins: 1 E, 2 B (in), 3 C

## S8550
designator *  value S8550  Reference: Q
0.7A Ic, 20V Vce, Low Voltage High Current PNP Transistor, TO-92; ki_keywords: S8550 PNP Low Voltage High Current Transistor; ki_fp_filters: TO?92*; Footprint: Package_TO_SOT_THT:TO-92_Inline; Datasheet: http://www.unisonic.com.tw/datasheet/S8550.pdf; Description_: 0.7A Ic, 20V Vce, Low Voltage High Current PNP Transistor, TO-92
pins: 1 E, 2 B (in), 3 C

## SS8050
designator *  value SS8050  Reference: Q
General Purpose NPN Transistor, 1.5A Ic, 25V Vce, SOT-23; ki_keywords: SS8050 NPN Transistor; ki_fp_filters: SOT?23*; Footprint: Package_TO_SOT_SMD:SOT-23; Datasheet: http://www.secosgmbh.com/datasheet/products/SSMPTransistor/SOT-23/SS8050.pdf; Description_: General Purpose NPN Transistor, 1.5A Ic, 25V Vce, SOT-23
pins: 1 B (in), 2 E, 3 C

## SS8550
designator *  value SS8550  Reference: Q
General Purpose PNP Transistor, 1.5A Ic, 25V Vce, SOT-23; ki_keywords: SS8550 PNP Transistor; ki_fp_filters: SOT?23*; Footprint: Package_TO_SOT_SMD:SOT-23; Datasheet: http://www.secosgmbh.com/datasheet/products/SSMPTransistor/SOT-23/SS8550.pdf; Description_: General Purpose PNP Transistor, 1.5A Ic, 25V Vce, SOT-23
pins: 1 B (in), 2 E, 3 C

## SSM2210
designator *  value SSM2210  Reference: Q
Audio Dual Matched NPN transistor, DIP-8/SOIC-8; ki_keywords: audio npn dual; ki_fp_filters: SOIC*8*3.9x4.9mm*P1.27mm* DIP*8*W7.62mm*; Datasheet: https://www.analog.com/media/en/technical-documentation/obsolete-data-sheets/SSM2210.pdf; Description_: Audio Dual Matched NPN transistor, DIP-8/SOIC-8
part A pins: 1 C1, 2 B1 (in), 3 E1
part B pins: 6 E2, 7 B2 (in), 8 C2

## SSM2220
designator *  value SSM2220  Reference: Q
Audio Dual Matched PNP transistor, DIP-8/SOIC-8; ki_keywords: audio pnp dual; ki_fp_filters: SOIC*8*3.9x4.9mm*P1.27mm* DIP*8*W7.62mm*; Datasheet: https://www.analog.com/media/en/technical-documentation/data-sheets/SSM2220.pdf; Description_: Audio Dual Matched PNP transistor, DIP-8/SOIC-8
part A pins: 1 C1, 2 B1 (in), 3 E1
part B pins: 6 E2, 7 B2 (in), 8 C2

## TIP41
designator *  value TIP41  Reference: Q
6A Ic, 40V Vce, Power NPN Transistor, TO-220; ki_fp_filters: TO?220*; Footprint: Package_TO_SOT_THT:TO-220-3_Vertical; Datasheet: https://www.centralsemi.com/get_document.php?cmp=1&mergetype=pd&mergepath=pd&pdf_id=tip41.PDF; Description_: 6A Ic, 40V Vce, Power NPN Transistor, TO-220; ki_keywords: power NPN Transistor
pins: 1 B (in), 2 C, 3 E

## TIP41A
designator *  value TIP41A  Reference: Q
6A Ic, 60V Vce, Power NPN Transistor, TO-220; ki_fp_filters: TO?220*; Footprint: Package_TO_SOT_THT:TO-220-3_Vertical; Datasheet: https://www.centralsemi.com/get_document.php?cmp=1&mergetype=pd&mergepath=pd&pdf_id=tip41.PDF; Description_: 6A Ic, 60V Vce, Power NPN Transistor, TO-220; ki_keywords: power NPN Transistor
pins: 1 B (in), 2 C, 3 E

## TIP41B
designator *  value TIP41B  Reference: Q
6A Ic, 80V Vce, Power NPN Transistor, TO-220; ki_fp_filters: TO?220*; Footprint: Package_TO_SOT_THT:TO-220-3_Vertical; Datasheet: https://www.centralsemi.com/get_document.php?cmp=1&mergetype=pd&mergepath=pd&pdf_id=tip41.PDF; Description_: 6A Ic, 80V Vce, Power NPN Transistor, TO-220; ki_keywords: power NPN Transistor
pins: 1 B (in), 2 C, 3 E

## TIP41C
designator *  value TIP41C  Reference: Q
6A Ic, 100V Vce, Power NPN Transistor, TO-220; ki_fp_filters: TO?220*; Footprint: Package_TO_SOT_THT:TO-220-3_Vertical; Datasheet: https://www.centralsemi.com/get_document.php?cmp=1&mergetype=pd&mergepath=pd&pdf_id=tip41.PDF; Description_: 6A Ic, 100V Vce, Power NPN Transistor, TO-220; ki_keywords: power NPN Transistor
pins: 1 B (in), 2 C, 3 E

## TIP42
designator *  value TIP42  Reference: Q
-6A Ic, -40V Vce, Power PNP Transistor, TO-220; ki_fp_filters: TO?220*; Footprint: Package_TO_SOT_THT:TO-220-3_Vertical; Datasheet: https://www.centralsemi.com/get_document.php?cmp=1&mergetype=pd&mergepath=pd&pdf_id=TIP42.PDF; Description_: -6A Ic, -40V Vce, Power PNP Transistor, TO-220; ki_keywords: power PNP Transistor
pins: 1 B (in), 2 C, 3 E

## TIP42A
designator *  value TIP42A  Reference: Q
-6A Ic, -60V Vce, Power PNP Transistor, TO-220; ki_fp_filters: TO?220*; Footprint: Package_TO_SOT_THT:TO-220-3_Vertical; Datasheet: https://www.centralsemi.com/get_document.php?cmp=1&mergetype=pd&mergepath=pd&pdf_id=TIP42.PDF; Description_: -6A Ic, -60V Vce, Power PNP Transistor, TO-220; ki_keywords: power PNP Transistor
pins: 1 B (in), 2 C, 3 E

## TIP42B
designator *  value TIP42B  Reference: Q
-6A Ic, -80V Vce, Power PNP Transistor, TO-220; ki_fp_filters: TO?220*; Footprint: Package_TO_SOT_THT:TO-220-3_Vertical; Datasheet: https://www.centralsemi.com/get_document.php?cmp=1&mergetype=pd&mergepath=pd&pdf_id=TIP42.PDF; Description_: -6A Ic, -80V Vce, Power PNP Transistor, TO-220; ki_keywords: power PNP Transistor
pins: 1 B (in), 2 C, 3 E

## TIP42C
designator *  value TIP42C  Reference: Q
-6A Ic, -100V Vce, Power PNP Transistor, TO-220; ki_fp_filters: TO?220*; Footprint: Package_TO_SOT_THT:TO-220-3_Vertical; Datasheet: https://www.centralsemi.com/get_document.php?cmp=1&mergetype=pd&mergepath=pd&pdf_id=TIP42.PDF; Description_: -6A Ic, -100V Vce, Power PNP Transistor, TO-220; ki_keywords: power PNP Transistor
pins: 1 B (in), 2 C, 3 E

## TIP120
designator *  value TIP120  Reference: Q
5A Ic, 60V Vce, Silicon Darlington Power NPN Transistor, TO-220; ki_fp_filters: TO?220*; Footprint: Package_TO_SOT_THT:TO-220-3_Vertical; Datasheet: https://www.onsemi.com/pub/Collateral/TIP120-D.PDF; Description_: 5A Ic, 60V Vce, Silicon Darlington Power NPN Transistor, TO-220; ki_keywords: Darlington Power NPN Transistor
pins: 1 B (in), 2 C, 3 E

## TIP121
designator *  value TIP121  Reference: Q
5A Ic, 80V Vce, Silicon Darlington Power NPN Transistor, TO-220; ki_fp_filters: TO?220*; Footprint: Package_TO_SOT_THT:TO-220-3_Vertical; Datasheet: https://www.onsemi.com/pub/Collateral/TIP120-D.PDF; Description_: 5A Ic, 80V Vce, Silicon Darlington Power NPN Transistor, TO-220; ki_keywords: Darlington Power NPN Transistor
pins: 1 B (in), 2 C, 3 E

## TIP122
designator *  value TIP122  Reference: Q
5A Ic, 100V Vce, Silicon Darlington Power NPN Transistor, TO-220; ki_fp_filters: TO?220*; Footprint: Package_TO_SOT_THT:TO-220-3_Vertical; Datasheet: https://www.onsemi.com/pub/Collateral/TIP120-D.PDF; Description_: 5A Ic, 100V Vce, Silicon Darlington Power NPN Transistor, TO-220; ki_keywords: Darlington Power NPN Transistor
pins: 1 B (in), 2 C, 3 E

## TIP125
designator *  value TIP125  Reference: Q
5A Ic, 60V Vce, Silicon Darlington Power PNP Transistor, TO-220; ki_fp_filters: TO?220*; Footprint: Package_TO_SOT_THT:TO-220-3_Vertical; Datasheet: https://www.onsemi.com/pub/Collateral/TIP120-D.PDF; Description_: 5A Ic, 60V Vce, Silicon Darlington Power PNP Transistor, TO-220; ki_keywords: Darlington Power PNP Transistor
pins: 1 B (in), 2 C, 3 E

## TIP126
designator *  value TIP126  Reference: Q
5A Ic, 80V Vce, Silicon Darlington Power PNP Transistor, TO-220; ki_fp_filters: TO?220*; Footprint: Package_TO_SOT_THT:TO-220-3_Vertical; Datasheet: https://www.onsemi.com/pub/Collateral/TIP120-D.PDF; Description_: 5A Ic, 80V Vce, Silicon Darlington Power PNP Transistor, TO-220; ki_keywords: Darlington Power PNP Transistor
pins: 1 B (in), 2 C, 3 E

## TIP127
designator *  value TIP127  Reference: Q
5A Ic, 100V Vce, Silicon Darlington Power PNP Transistor, TO-220; ki_fp_filters: TO?220*; Footprint: Package_TO_SOT_THT:TO-220-3_Vertical; Datasheet: https://www.onsemi.com/pub/Collateral/TIP120-D.PDF; Description_: 5A Ic, 100V Vce, Silicon Darlington Power PNP Transistor, TO-220; ki_keywords: Darlington Power PNP Transistor
pins: 1 B (in), 2 C, 3 E

## TIP2955
designator *  value TIP2955  Reference: Q
-15A Ic, -60V Vce, Power PNP Transistor, TO-218; ki_fp_filters: TO?218*; Footprint: Package_TO_SOT_THT:TO-218-3_Vertical; Datasheet: http://www.onsemi.com/pub_link/Collateral/TIP3055-D.PDF; Description_: -15A Ic, -60V Vce, Power PNP Transistor, TO-218; ki_keywords: power PNP Transistor
pins: 1 B (in), 2 C, 3 E

## TIP2955G
designator *  value TIP2955G  Reference: Q
-15A Ic, -60V Vce, Power PNP Transistor, TO-247; ki_fp_filters: TO?247*; Footprint: Package_TO_SOT_THT:TO-247-3_Vertical; Datasheet: http://www.onsemi.com/pub_link/Collateral/TIP3055-D.PDF; Description_: -15A Ic, -60V Vce, Power PNP Transistor, TO-247; ki_keywords: power PNP Transistor
pins: 1 B (in), 2 C, 3 E

## TIP3055
designator *  value TIP3055  Reference: Q
15A Ic, 60V Vce, Power NPN Transistor, TO-218; ki_fp_filters: TO?218*; Footprint: Package_TO_SOT_THT:TO-218-3_Vertical; Datasheet: http://www.onsemi.com/pub_link/Collateral/TIP3055-D.PDF; Description_: 15A Ic, 60V Vce, Power NPN Transistor, TO-218; ki_keywords: power NPN Transistor
pins: 1 B (in), 2 C, 3 E

## TIP3055G
designator *  value TIP3055G  Reference: Q
15A Ic, 60V Vce, Power NPN Transistor, TO-247; ki_fp_filters: TO?247*; Footprint: Package_TO_SOT_THT:TO-247-3_Vertical; Datasheet: http://www.onsemi.com/pub_link/Collateral/TIP3055-D.PDF; Description_: 15A Ic, 60V Vce, Power NPN Transistor, TO-247; ki_keywords: power NPN Transistor
pins: 1 B (in), 2 C, 3 E

## UMH3N
designator *  value UMH3N  Reference: Q
0.1A Ic, 50V Vce, Dual NPN Input Resistor Transistors, SOT-363; ki_keywords: Dual NPN Transistor; ki_fp_filters: SOT?363*; Footprint: Package_TO_SOT_SMD:SOT-363_SC-70-6; Datasheet: http://rohmfs.rohm.com/en/products/databook/datasheet/discrete/transistor/digital/emh3t2r-e.pdf; Description_: 0.1A Ic, 50V Vce, Dual NPN Input Resistor Transistors, SOT-363
part A pins: 1 E1, 2 B1 (in), 6 C1
part B pins: 3 C2, 4 E2, 5 B2 (in)